# Altium schematic symbol library TI-LM385B-1_2D8.SchLib: 1 symbol
Pins are listed as number, name and electrical type; pins without a type are passive.

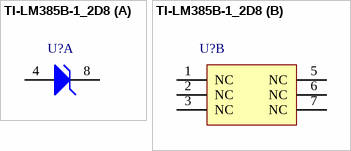
[diagram p0: symbol TI-LM385B-1_2D8]

## TI-LM385B-1_2D8
designator U?
part A pins: 4 ANODE, 8 CATHODE
part B pins: 1 NC "No internal connection", 2 NC "No internal connection", 3 NC "No internal connection", 5 NC "No internal connection", 6 NC "No internal connection", 7 NC "No internal connection"